# EAGLE library part MAXIEM-MAX4821-RELAYDRIVER (library ClintonLib)
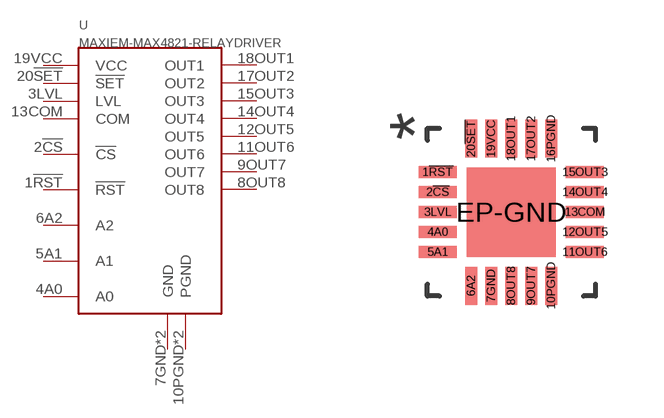
[diagram p7: symbol with the pads of MAX4821-20-TQFN-EP-T2044-3; footprint MAX4821-20-TQFN-EP-T2044-3]

Designator prefix -

## MAXIEM-MAX4821-RELAYDRIVER  [MAX4821-20-TQFN-EP-T2044-3]
1!RST  !RST
2!CS  !CS
3LVL  LVL
4A0  A0
5A1  A1
6A2  A2
7GND  GND
8OUT8  OUT8
9OUT7  OUT7
10PGND  PGND
11OUT6  OUT6
12OUT5  OUT5
13COM  COM
14OUT4  OUT4
15OUT3  OUT3
16PGND  PGND
17OUT2  OUT2
18OUT1  OUT1
19VCC  VCC
20!SET  !SET
EP-GND  GND

## Footprint MAX4821-20-TQFN-EP-T2044-3 (pad centres in mm)
Maxim Integrated 3.3v / 5v 8 Channel Relay Driver
smd 0.95 x 0.3: 1!RST -1.84,1; 2!CS -1.84,0.5; 3LVL -1.84,0; 4A0 -1.84,-0.5; 5A1 -1.84,-1; 11OUT6 1.84,-1; 12OUT5 1.84,-0.5; 13COM 1.84,0; 14OUT4 1.84,0.5; 15OUT3 1.84,1
smd 0.3 x 0.95: 6A2 -1,-1.84; 7GND -0.5,-1.84; 8OUT8 0,-1.84; 9OUT7 0.5,-1.84; 10PGND 1,-1.84; 16PGND 1,1.84; 17OUT2 0.5,1.84; 18OUT1 0,1.84; 19VCC -0.5,1.84; 20!SET -1,1.84
smd 2.23 x 2.23: EP-GND 0,0